# EAGLE library part MC34060APG (library on-semiconductor-01)
Fixed Frequency, PWM, Voltage Mode Single Ended Controllers
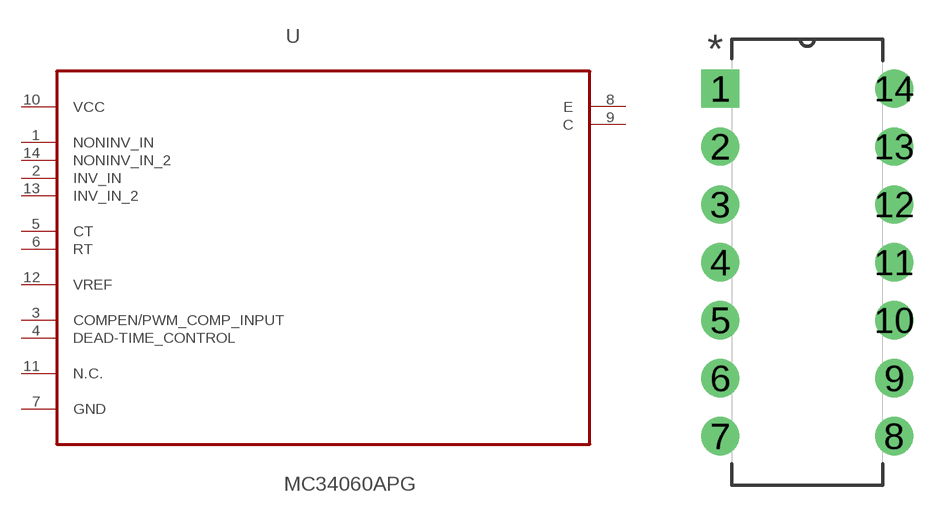
[diagram p388: symbol with the pads of DIP254P762X469-14; footprint DIP254P762X469-14]

Designator prefix U

## MC34060APG (MPN: MC34060APG; OC_FARNELL: 1214461; OC_NEWARK: 26K4038; PACKAGE: PDIP-14; SUPPLIER: ON SEMICONDUCTOR)  [DIP254P762X469-14]
1  NONINV_IN  in
2  INV_IN  in
3  COMPEN/PWM_COMP_INPUT  in
4  DEAD-TIME_CONTROL  in
5  CT  in
6  RT  in
7  GND  pas
8  E  pas
9  C  pas
10  VCC  pwr
11  N.C.  nc
12  VREF
13  INV_IN_2  in
14  NONINV_IN_2  in

## Footprint DIP254P762X469-14 (pad centres in mm)
drill 1.118 square: 1 -7.62,15.24
drill 1.118: 2 -7.62,12.7; 3 -7.62,10.16; 4 -7.62,7.62; 5 -7.62,5.08; 6 -7.62,2.54; 7 -7.62,0; 8 0,0; 9 0,2.54; 10 0,5.08; 11 0,7.62; 12 0,10.16; 13 0,12.7; 14 0,15.24